# Altium footprint library A_Passive.PcbLib: 83 footprints (part 2 of 6)
Each footprint in its own frame and in the unit in brackets; x right, y up, seen from the top. Pads: shape width x height; smd on the part's side, far side on the other; paste and mask are expansions set on the pad; w line width, h text height; cw(c..) or ccw(c..) is an arc to the next point about the centre after c.
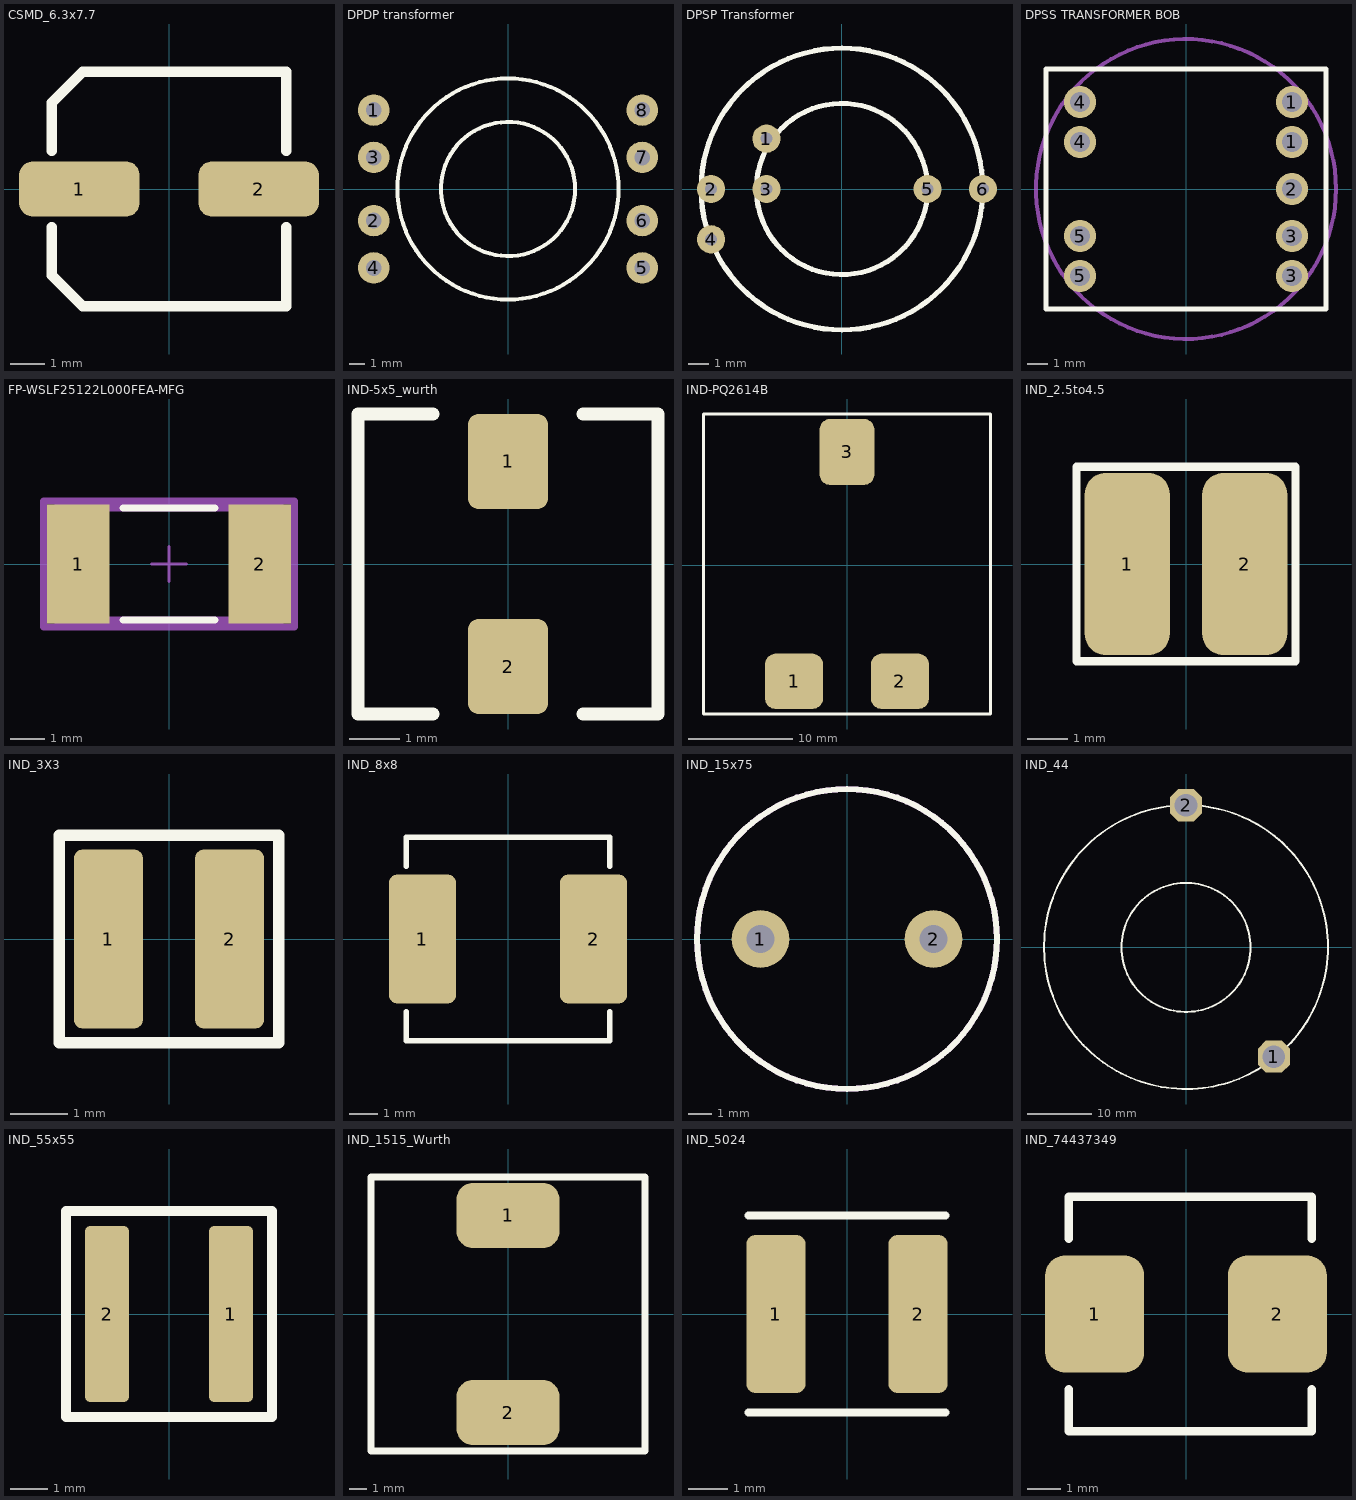
[diagram p1: the footprints below, top view; thin cyan lines are the x and y axes]

## CSMD_6.3x7.7 [mm]
pads (2):
  rrect50% 3.5x1.6 smd mask+0.05: 1(-2.6,0) 2(2.6,0)
Top Overlay:
  lines w0.3: -3.4,-1.1 -3.4,-2.5 -2.5,-3.4 3.4,-3.4 3.4,-1.1 ; -3.4,1.1 -3.4,2.5 -2.5,3.4 3.4,3.4 3.4,1.1
3D body: height 0.25, standoff -19.93, extent -0.1,0 -0.1,0
3D body: height 7.7, standoff 0, extent -3.15,-3.147 3.15,3.147

## DPDP transformer [mm] "12.7 x 8.14 x 6.35mm Toroid AE = 14.2mm2"
height 7
pads (8):
  round 2 hole 1: 1(-8.5,5) 2(-8.5,-2) 3(-8.5,2) 4(-8.5,-5) 5(8.5,-5) 6(8.5,-2) 7(8.5,2) 8(8.5,5)
Top Overlay:
  circle w0.254: c0,0 r7
  circle w0.254: c0,0 r4.25
3D body "44051.stp": height 10, standoff 2, extent -7,-7 7,7

## DPSP Transformer [mm] "12.7 x 8.14 x 6.35mm Toroid AE = 14.2mm2"
height 7
pads (6):
  round 1.4 hole 0.6: 1(-3.75,2.5) 2(-6.5,0) 3(-3.75,0) 4(-6.5,-2.5) 5(4.25,0) 6(7,0)
Top Overlay:
  circle w0.254: c0,0 r7
  circle w0.254: c0,0 r4.25
3D body "44051.stp": height 10, standoff 2, extent -7,-7 7,7

## DPSS TRANSFORMER BOB [mm]
pads (9):
  round 1.6 hole 1: 1(5.3,2.35) 1(5.3,4.35) 2(5.3,0) 3(5.3,-4.35) 3(5.3,-2.35) 4(-5.3,2.35) 4(-5.3,4.35) 5(-5.3,-4.35) 5(-5.3,-2.35)
Top Overlay:
  lines w0.254: -7,-6 -7,6 7,6 7,-6 -7,-6
Mechanical 13:
  circle w0.2: c0,0 r7.5

## FP-WSLF25122L000FEA-MFG [mm]
pads (2):
  rect 1.8x3.4 smd paste+0 mask+0: 1(-2.6,0) 2(2.6,0)
Top Overlay:
  lines w0.2: -1.325,-1.61 1.325,-1.61 ; -1.325,1.61 1.325,1.61
Mechanical 5:
  lines w0.2: -3.6,-1.8 -3.6,1.8 3.6,1.8 3.6,-1.8 -3.6,-1.8
Mechanical 13:
  lines w0.2: -3.25,-1.61 -3.25,1.61 3.25,1.61 3.25,-1.61 -3.25,-1.61
Mechanical 15:
  lines w0.2: -3.6,-1.8 -3.6,1.8 3.6,1.8 3.6,-1.8 -3.6,-1.8
Mechanical 16:
  lines w0.1: -0.5,0 0.5,0 ; 0,-0.5 0,0.5
3D body "Res_Vishay_WSLF25122L000FEA_eec.STEP": height 0.25, standoff 0, extent -3.6,-1.8 3.6,1.8

## IND-5x5_wurth [mm]
pads (2):
  rrect25% 1.6x1.9 smd: 1(0,2.05) 2(0,-2.05)
Top Overlay:
  lines w0.254: -1.5,-3 -3,-3 -3,3 -1.5,3 ; 1.5,-3 3,-3 3,3 1.5,3
3D body: height 4, standoff 0, extent -2.75,-2.75 2.75,2.75

## IND-PQ2614B [mm]
pads (3):
  rrect40% 5.59x5.33 smd: 1(-5.075,-11.115) 2(5.075,-11.115)
  rrect40% 5.28x6.35 smd: 3(0,10.86)
Top Overlay:
  lines w0.254: -13.75,-14.25 13.75,-14.25 13.75,14.5 -13.75,14.5 -13.75,-14.25
3D body "PQ2614BLA.stp": height 15, standoff -0.1, extent -13.4,-13.15 13.4,14.025

## IND_2.5to4.5 [mm]
pads (2):
  rrect50% 2.1x4.5 smd mask+0.05: 1(-1.45,0) 2(1.45,0)
Top Overlay:
  lines w0.2: -2.7,-2.4 -2.7,2.4 2.7,2.4 2.7,-2.4 -2.7,-2.4

## IND_3X3 [mm]
pads (2):
  rrect25% 1.2x3.1 smd mask+0.05: 1(-1.05,0) 2(1.05,0)
Top Overlay:
  lines w0.2: -1.9,-1.8 1.9,-1.8 1.9,1.8 -1.9,1.8 -1.9,-1.8
3D body: height 1.8, standoff 0.09, extent -1.5,-1.5 1.5,1.5

## IND_8x8 [mm]
pads (2):
  rrect25% 2.4x4.6 smd mask+0.05: 1(-3.05,0) 2(3.05,0)
Top Overlay:
  lines w0.2: -3.625,-2.6 -3.625,-3.625 3.625,-3.625 3.625,-2.6 ; -3.625,2.6 -3.625,3.625 3.625,3.625 3.625,2.6

## IND_15x75 [mm] "10uH inductor"
pads (2):
  round 2.5 hole 1.2: 1(-3.75,0) 2(3.75,0)
Top Overlay:
  circle w0.254: c0,0 r6.5
Mechanical 15:
  circle w0.254: c0,0 r6.5
3D body: height 13, standoff 1, extent -6.25,-6.247 6.25,6.247

## IND_44 [mm]
pads (2):
  oct 5x5 hole 3.5: 1(13.6,-16.99) 2(-0.03,21.99)
Top Overlay:
  circle w0.3: c-0.03,-0.06 r10
  circle w0.3: c-0.03,-0.01 r22
3D body: height 27, standoff 3, extent -21.949,-21.999 22.049,21.999

## IND_55x55 [mm]
pads (2):
  rrect25% 1.18x4.7 smd: 1(1.655,0) 2(-1.655,0)
Top Overlay:
  lines w0.254: -2.75,-2.75 2.75,-2.75 2.75,2.75 -2.75,2.75 -2.75,-2.75
3D body: height 3.1, standoff 0, extent -2.5,-2.5 2.5,2.5

## IND_1515_Wurth [mm]
pads (2):
  rrect50% 6x3.8 smd mask+0.05: 1(0,5.75) 2(0,-5.75)
Top Overlay:
  lines w0.4: -8,-8 -8,8 8,8 8,-8 -8,-8
3D body "Coilcraft-MSS1583.step": height 9.15, standoff 0.1, extent -7.55,-7.55 7.55,7.55

## IND_5024 [mm]
pads (2):
  rrect30% 1.5x4 smd: 1(-1.8,0) 2(1.8,0)
Top Overlay:
  lines w0.2: -2.5,-2.5 2.5,-2.5 ; -2.5,2.5 2.5,2.5
3D body: height 2.5, standoff 0, extent -2.5,-2.5 2.5,2.5

## IND_74437349 [mm]
pads (2):
  rrect40% 2.95x3.5 smd: 1(-2.725,0) 2(2.725,0)
Top Overlay:
  lines w0.254: -3.5,-2.25 -3.5,-3.5 3.75,-3.5 3.75,-2.25 ; -3.5,2.25 -3.5,3.5 3.75,3.5 3.75,2.25